# Altium footprint library My_Lib.PcbLib: 12 footprints
Each footprint in its own frame and in the unit in brackets; x right, y up, seen from the top. Pads: shape width x height; smd on the part's side, far side on the other; paste and mask are expansions set on the pad; w line width, h text height; cw(c..) or ccw(c..) is an arc to the next point about the centre after c.
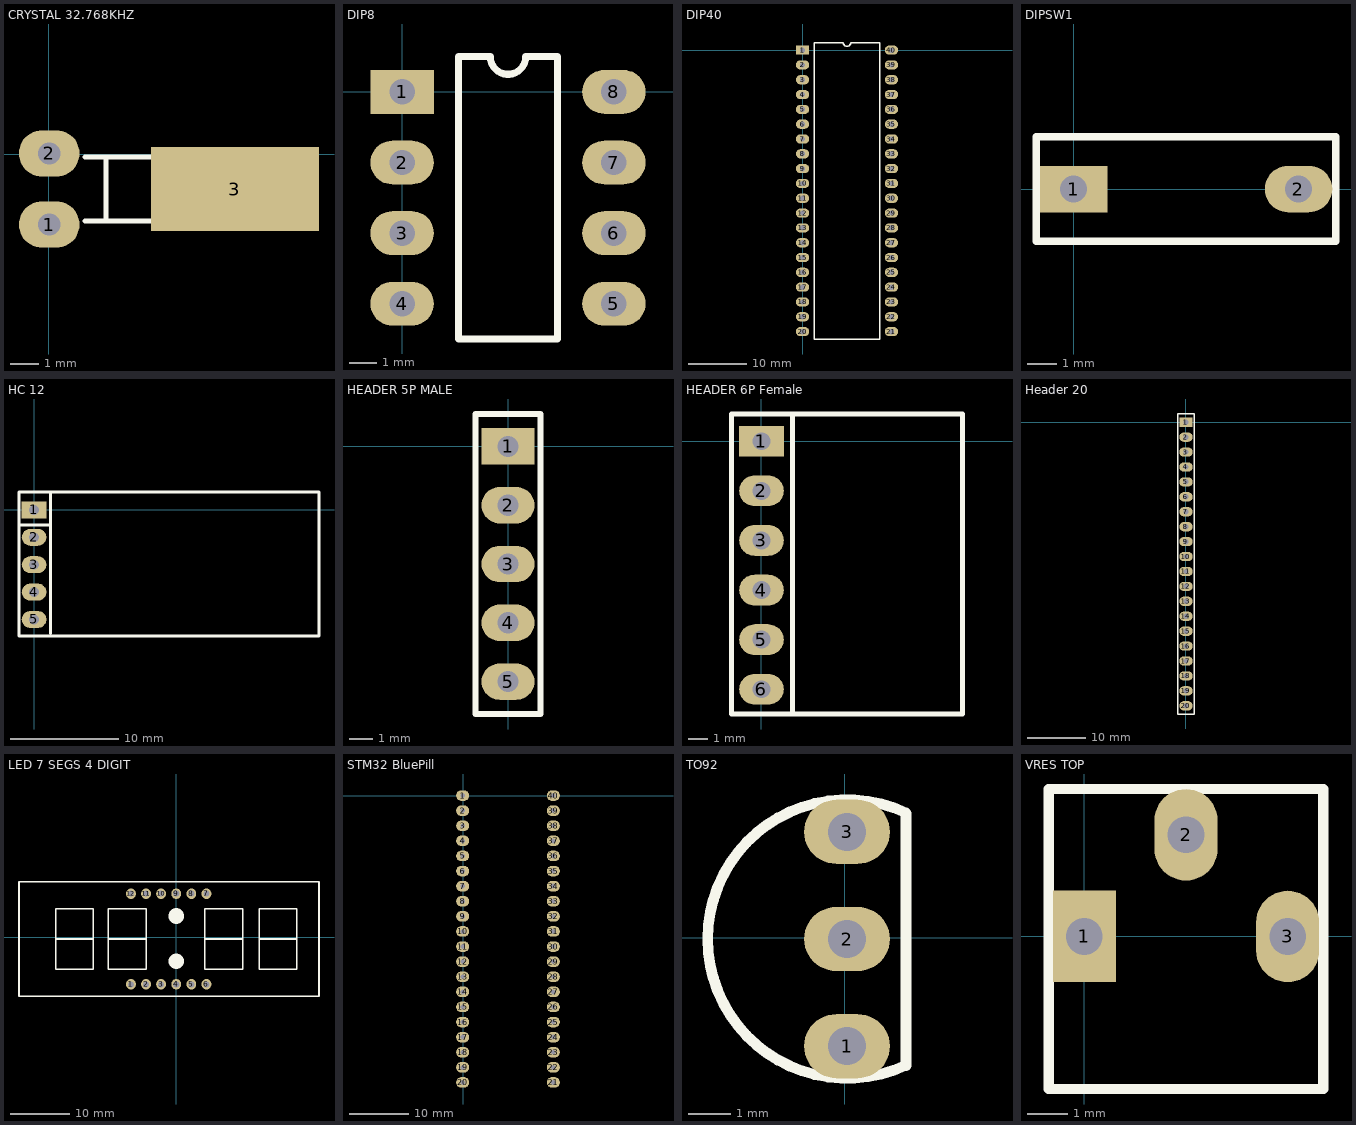
[diagram p0: the footprints below, top view; thin cyan lines are the x and y axes]

## CRYSTAL 32.768KHZ [mil]
pads (3):
  oval 85x65 hole 31: 1(1,-99) 2(1,1)
  rect 236.22x118.11 smd: 3(262,-49)
Top Overlay:
  lines w7: 51,-94 81,-94 ; 51,-4 81,-4 ; 81,-94 81,-4 ; 81,-94 351,-94 351,-4 81,-4
3D body "User Library-DT-26-2.STEP": height 78.74, standoff -18.54, extent -3.97,-105.99 345.97,6

## DIP8 [mil]
pads (8):
  rect 90x62 hole 36: 1(0,0)
  oval 90x62 hole 36: 2(0,-100) 3(0,-200) 4(0,-300) 5(300,-300) 6(300,-200) 7(300,-100) 8(300,0)
Top Overlay:
  lines w10: 80,-350 80,50 125,50 ccw(c150,50) 175,50 220,50 220,-350 80,-350
3D body "IC DIP 8-pin.step": height 179.13, standoff -78.74, extent -0.9,-342.91 310.91,42.91

## DIP40 [mil]
pads (40):
  rect 90x62 hole 36: 1(0,0)
  oval 90x62 hole 36: 2(0,-100) 3(0,-200) 4(0,-300) 5(0,-400) 6(0,-500) 7(0,-600) 8(0,-700) 9(0,-800) 10(0,-900) 11(0,-1000) 12(0,-1100) 13(0,-1200) 14(0,-1300) 15(0,-1400) 16(0,-1500) 17(0,-1600) 18(0,-1700) 19(0,-1800) 20(0,-1900) 21(600,-1900) 22(600,-1800) 23(600,-1700) 24(600,-1600) 25(600,-1500) 26(600,-1400) 27(600,-1300) 28(600,-1200) 29(600,-1100) 30(600,-1000) 31(600,-900) 32(600,-800) 33(600,-700) 34(600,-600) 35(600,-500) 36(600,-400) 37(600,-300) 38(600,-200) 39(600,-100) 40(600,0)
Top Overlay:
  lines w10: 80,-1950 80,50 275,50 ccw(c300,50) 325,50 520,50 520,-1950 80,-1950
3D body "DIP40 & Socket.stp": height 319.29, standoff -124.8, extent -43.43,-1977.48 653.43,80

## DIPSW1 [mil]
pads (2):
  rect 90x62 hole 36: 1(0,0)
  oval 90x62 hole 36: 2(300,0)
Top Overlay:
  lines w10: -50,-70 -50,70 350,70 350,-70 -50,-70
3D body "DIP Switch x01 Red.stp": height 269.69, standoff -133.86, extent -44.88,-70 344.88,69.37

## HC 12 [mil]
pads (5):
  rect 90x62 hole 36: 1(0,0)
  oval 90x62 hole 36: 2(0,-100) 3(0,-200) 4(0,-300) 5(0,-400)
Top Overlay:
  lines w10: -55,-55 60,-55 ; 55,65 60,65 60,-450 ; -55,-460 -55,65 1040,65 1040,-460 -55,-460
3D body "HC-12 SI4463 WIRELESS SERIAL MODULE.STEP": height 1019.68, standoff 0, extent -50.23,-455 1040.23,68.62

## HEADER 5P MALE [mil]
pads (5):
  rect 90x62 hole 36: 1(0,0)
  oval 90x62 hole 36: 2(0,-100) 3(0,-200) 4(0,-300) 5(0,-400)
Top Overlay:
  lines w10: -55,-455 -55,55 55,55 55,-455 -55,-455
3D body "zl201-5_p2-54_l12-7_w2-54_h8-89.stp": height 350, standoff -120, extent -50,-450 50,50

## HEADER 6P Female [mil]
pads (6):
  rect 90x62 hole 36: 1(0,0)
  oval 90x62 hole 36: 2(0,-100) 3(0,-200) 4(0,-300) 5(0,-400) 6(0,-500)
Top Overlay:
  lines w10: 62.68,-550 62.68,55 66.34,55 ; -60,-550 -60,55 405,55 405,-550 -60,-550
3D body "H254_90deg_6pin.STEP": height 100, standoff -141.61, extent -10,-545 397.53,55

## Header 20 [mil]
pads (20):
  rect 90x62 hole 36: 1(0,0)
  oval 90x62 hole 36: 2(0,-100) 3(0,-200) 4(0,-300) 5(0,-400) 6(0,-500) 7(0,-600) 8(0,-700) 9(0,-800) 10(0,-900) 11(0,-1000) 12(0,-1100) 13(0,-1200) 14(0,-1300) 15(0,-1400) 16(0,-1500) 17(0,-1600) 18(0,-1700) 19(0,-1800) 20(0,-1900)
Top Overlay:
  lines w10: -55,-1955 -55,55 55,55 55,-1955 -55,-1955
3D body "zl201-20_p2-54_l50-8_w2-54_h8-9.stp": height 350, standoff -120, extent -50,-1949.99 50,50.01

## LED 7 SEGS 4 DIGIT [mil]
pads (12):
  oval 65x70 hole 40: 1(-300,-313) 2(-200,-313) 3(-100,-313) 4(0,-313) 5(100,-313) 6(200,-313) 7(200,287) 8(100,287) 9(0,287) 10(-100,287) 11(-200,287) 12(-300,287)
Top Overlay:
  lines w10: -800,-13 -550,-13 ; -450,-13 -200,-13 ; 190,-13 440,-13 ; 550,-13 800,-13 ; -1042,-393 -1042,367 946,367 946,-393 -1042,-393 ; -800,-213 -550,-213 -550,187 -800,187 -800,-213 ; -450,-213 -200,-213 -200,187 -450,187 -450,-213 ; 190,-213 440,-213 440,187 190,187 190,-213 ; 550,-213 800,-213 800,187 550,187 550,-213
  lines w100: 0,-163 ccw(c-28,-159) 0.28,-159 ; 0,137 ccw(c-28,141) 0.28,141
3D body "7seg clock.step": height 280.13, standoff -196.25, extent -1040.15,-388.01 940.16,360.02

## STM32 BluePill [mil]
pads (40):
  oval 86.61x70 hole 32: 1(-5,0) 2(-5,-100) 3(-5,-200) 4(-5,-300) 5(-5,-400) 6(-5,-500) 7(-5,-600) 8(-5,-700) 9(-5,-800) 10(-5,-900) 11(-5,-1000) 12(-5,-1100) 13(-5,-1200) 14(-5,-1300) 15(-5,-1400) 16(-5,-1500) 17(-5,-1600) 18(-5,-1700) 19(-5,-1800) 20(-5,-1900) 21(595,-1900) 22(595,-1800) 23(595,-1700) 24(595,-1600) 25(595,-1500) 26(595,-1400) 27(595,-1300) 28(595,-1200) 29(595,-1100) 30(595,-1000) 31(595,-900) 32(595,-800) 33(595,-700) 34(595,-600) 35(595,-500) 36(595,-400) 37(595,-300) 38(595,-200) 39(595,-100) 40(595,0)
3D body "BluePill2_1567071806.STEP": height 571.26, standoff -115, extent -146.99,-2195.99 738.83,112.52

## TO92 [mil]
pads (3):
  oval 80x60 hole 35.43: 1(2,-101) 2(2,-1) 3(2,99)
Top Overlay:
  lines w10: 56.92,-118.83 cw(c2,-1) 56.92,116.83 ; 57,-119 57,116
3D body "TO92.step": height 335.64, standoff -109.19, extent -93,-104.87 67.56,112.87

## VRES TOP [mil]
pads (3):
  rect 62x90 hole 36: 1(0,0)
  oval 62x90 hole 36: 2(100,100) 3(200,0)
Top Overlay:
  lines w10: -35,-150 -35,145 235,145 235,-150 -35,-150
3D body "Trimpot 3362P.step": height 185.04, standoff -78.74, extent -29.92,-145.66 229.92,137.8